# Altium schematic symbol library MAX6126AASA50&plus_.SchLib: 1 symbol
Pins are listed as number, name and electrical type; pins without a type are passive.

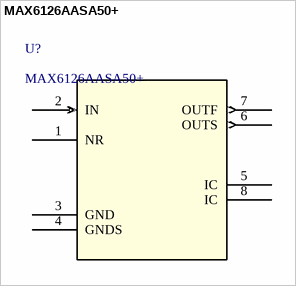
[diagram p0: symbol MAX6126AASA50+]

## MAX6126AASA50+
designator U?
MAX6126AASA50+ Voltage Reference; Mfr_Name: Maxim Integrated Products; Copyright: Copyright (C) 2022 Ultra Librarian. All rights reserved.; Manufacturer_Part_Number: MAX6126AASA50+; RefDes: RefDes; Type: DEV
footprint 21-0041B_8
pins: 1 NR, 2 IN (in), 3 GND (power), 4 GNDS (power), 5 IC, 6 OUTS (out), 7 OUTF (out), 8 IC